# Altium schematic symbol library Inductor-L.SchLib: 1 symbol
Pins are listed as number, name and electrical type; pins without a type are passive.

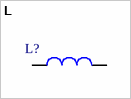
[diagram p0: symbol L]

## L
designator L?
pins: 1 EN, 2 VOUT